# EAGLE library part ENC624J600 (library microchip-ethernet)
Stand-Alone 10/100 Ethernet Controller with SPI or Parallel Interface The ENC424J600 and ENC624J600 are stand-alone,Fast Ethernet controllers with an industry standard Serial Peripheral Interface (SPI) or a flexible parallel interface. They are designed to serve as an Ethernet network interface for any microcontroller equipped with SPI or a standard parallel port. ENC424J600/624J600 devices meet all of the IEEE 802.3 specifications applicable to 10Base-T and 100Base-TX Ethernet, including many optional clauses, such as auto-negotiation. They incorporate a number of packet filtering schemes to limit incoming packets. They also provide an internal, 16-bit wide DMA for fast data throughput and support for hardware IP checksum calculations. For applications that require the security and authentication features of SSL, TLS and other protocols related to cryptography, a block of security engines is provided. The engines perform RSA, Diffie-Hellman, AES, MD5 and SHA-1 algorithm computations, allowing reduced code size, faster connection establishment and throughput, and reduced firmware development effort.
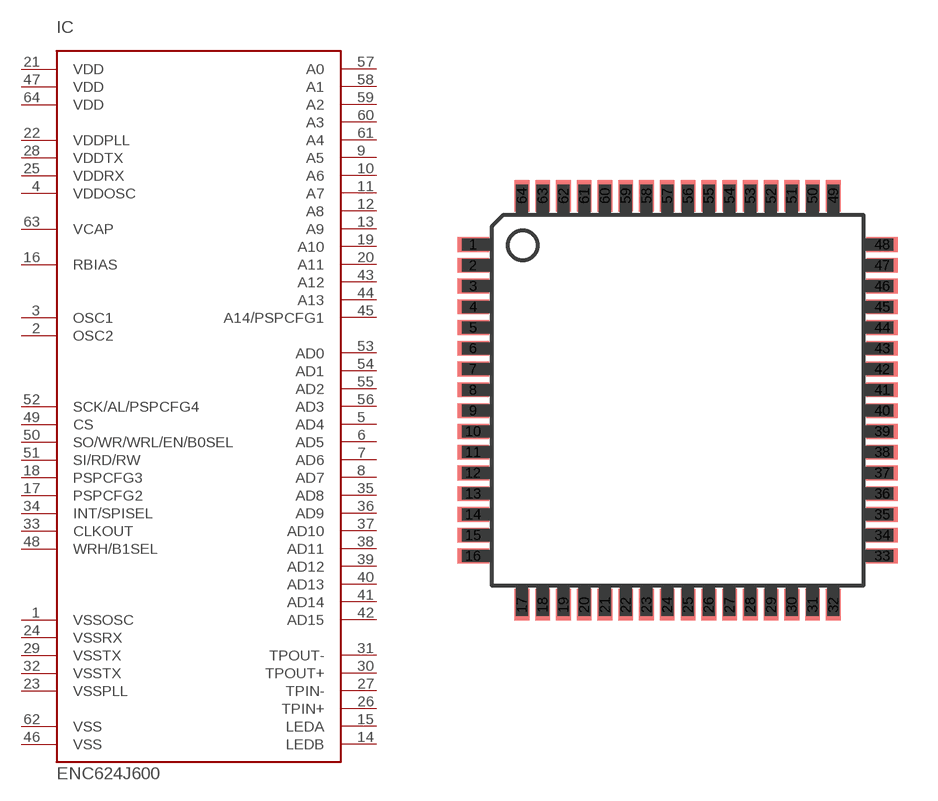
[diagram p1: symbol with the pads of TQFP64; footprint TQFP64]

Designator prefix IC

## ENC624J600-I/PT  [TQFP64]
1  VSSOSC  pwr
2  OSC2  out
3  OSC1  in
4  VDDOSC  pwr
5  AD4
6  AD5
7  AD6
8  AD7
9  A5  in
10  A6  in
11  A7  in
12  A8  in
13  A9  in
14  LEDB  out
15  LEDA  out
16  RBIAS  in
17  PSPCFG2  in
18  PSPCFG3  in
19  A10  in
20  A11  in
21  VDD  pwr
22  VDDPLL  pwr
23  VSSPLL  pwr
24  VSSRX  pwr
25  VDDRX  pwr
26  TPIN+  in
27  TPIN-  in
28  VDDTX  pwr
29  VSSTX  pwr
30  TPOUT+  out
31  TPOUT-  out
32  VSSTX  pwr
33  CLKOUT  out
34  INT/SPISEL
35  AD8
36  AD9
37  AD10
38  AD11
39  AD12
40  AD13
41  AD14
42  AD15
43  A12  in
44  A13  in
45  A14/PSPCFG1  in
46  VSS  pwr
47  VDD  pwr
48  WRH/B1SEL  in
49  CS  in
50  SO/WR/WRL/EN/B0SEL
51  SI/RD/RW  in
52  SCK/AL/PSPCFG4  in
53  AD0
54  AD1
55  AD2
56  AD3
57  A0  in
58  A1  in
59  A2  in
60  A3  in
61  A4  in
62  VSS  pwr
63  VCAP  in
64  VDD  pwr

## Footprint TQFP64 (pad centres in mm)
64-Lead Thin Quad Flat Package (Package Type PT)
smd 1.194 x 0.559: 1 -7.76,5.905; 2 -7.76,5.118; 3 -7.76,4.331; 4 -7.76,3.543; 5 -7.76,2.756; 6 -7.76,1.968; 7 -7.76,1.181; 8 -7.76,0.394; 9 -7.76,-0.394; 10 -7.76,-1.181; 11 -7.76,-1.968; 12 -7.76,-2.756; 13 -7.76,-3.543; 14 -7.76,-4.331; 15 -7.76,-5.118; 16 -7.76,-5.905; 33 7.76,-5.905; 34 7.76,-5.118; 35 7.76,-4.331; 36 7.76,-3.543; 37 7.76,-2.756; 38 7.76,-1.968; 39 7.76,-1.181; 40 7.76,-0.394; 41 7.76,0.394; 42 7.76,1.181; 43 7.76,1.968; 44 7.76,2.756; 45 7.76,3.543; 46 7.76,4.331; 47 7.76,5.118; 48 7.76,5.905
smd 0.559 x 1.194: 17 -5.905,-7.76; 18 -5.118,-7.76; 19 -4.331,-7.76; 20 -3.543,-7.76; 21 -2.756,-7.76; 22 -1.968,-7.76; 23 -1.181,-7.76; 24 -0.394,-7.76; 25 0.394,-7.76; 26 1.181,-7.76; 27 1.968,-7.76; 28 2.756,-7.76; 29 3.543,-7.76; 30 4.331,-7.76; 31 5.118,-7.76; 32 5.905,-7.76; 49 5.905,7.76; 50 5.118,7.76; 51 4.331,7.76; 52 3.543,7.76; 53 2.756,7.76; 54 1.968,7.76; 55 1.181,7.76; 56 0.394,7.76; 57 -0.394,7.76; 58 -1.181,7.76; 59 -1.968,7.76; 60 -2.756,7.76; 61 -3.543,7.76; 62 -4.331,7.76; 63 -5.118,7.76; 64 -5.905,7.76